# Altium footprint library LCD20x4.PcbLib: 1 footprints
Each footprint in its own frame and in the unit in brackets; x right, y up, seen from the top. Pads: shape width x height; smd on the part's side, far side on the other; paste and mask are expansions set on the pad; w line width, h text height; cw(c..) or ccw(c..) is an arc to the next point about the centre after c.
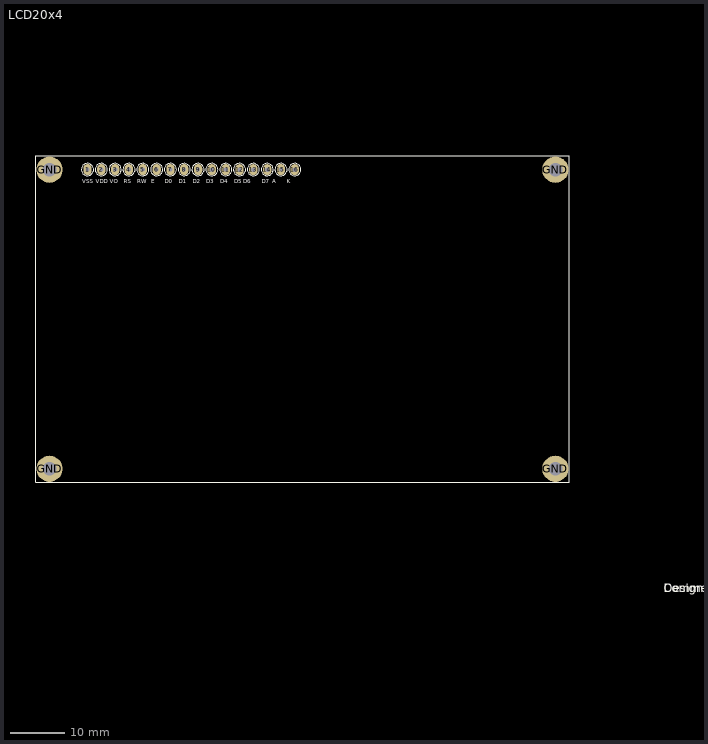
[diagram p0: the footprint, top view; thin cyan lines are the x and y axes]

## LCD20x4 [mil]
pads (20):
  oval 60x80 hole 30: 1(-12460,-1353) 2(-12360,-1353) 3(-12260,-1353) 4(-12161,-1353) 5(-12060,-1353) 6(-11960,-1353) 7(-11860,-1353) 8(-11761,-1353) 9(-11660,-1353) 10(-11561,-1354) 11(-11460,-1353) 12(-11360,-1354) 13(-11261,-1354) 14(-11160,-1354) 15(-11061,-1353) 16(-10961,-1354)
  round 190 hole 100: GND(-12735,-3518) GND(-12735,-1354) GND(-9075,-3518) GND(-9075,-1354)
Top Overlay:
  circle w0.5: c-12735.77,-1353.03 r59.06
  circle w0.5: c-9074.35,-1353.03 r59.06
  circle w0.5: c-12735.77,-3518.39 r59.19
  circle w0.5: c-9074.35,-3518.39 r59.06
  circle w0.5: c-12460.18,-1353.03 r44.15
  circle w0.5: c-12360.18,-1353.03 r44.15
  circle w0.5: c-12260.18,-1352.98 r44.2
  circle w0.5: c-12160.18,-1352.98 r44.2
  circle w0.5: c-12060.18,-1352.98 r44.2
  circle w0.5: c-11960.18,-1352.98 r44.2
  circle w0.5: c-11860.31,-1352.98 r44.2
  circle w0.5: c-11760.18,-1352.98 r44.2
  circle w0.5: c-11660.18,-1352.98 r44.2
  circle w0.5: c-11560.18,-1352.98 r44.2
  circle w0.5: c-11460.18,-1352.98 r44.2
  circle w0.5: c-11360.18,-1352.98 r44.2
  circle w0.5: c-11260.18,-1352.98 r44.2
  circle w0.5: c-11160.18,-1352.98 r44.2
  circle w0.5: c-11060.21,-1352.98 r44.2
  circle w0.5: c-10960.18,-1352.98 r44.2
  lines w0.5: -12834.19,-3616.81 -8975.93,-3616.81 -8975.93,-1254.61 -12834.19,-1254.61 -12834.19,-3616.81
  text "Comment" at -8290,-4410 h60
  text "Designator1" at -8290,-4410 h60
  text "VSS" at -12499.71,-1452.45 h28.7
  text "VDD" at -12399.71,-1452.45 h28.7
  text "VO" at -12299.71,-1452.45 h28.7
  text "RS" at -12199.71,-1452.45 h28.7
  text "RW" at -12099.71,-1452.45 h28.7
  text "E" at -11999.71,-1452.45 h28.7
  text "D0" at -11899.71,-1452.45 h28.7
  text "D1" at -11799.71,-1452.45 h28.7
  text "D2" at -11699.71,-1452.45 h28.7
  text "D3" at -11599.71,-1452.45 h28.7
  text "D4" at -11499.71,-1452.45 h28.7
  text "D5" at -11399.71,-1452.45 h28.7
  text "D6" at -11332,-1451 h28.7
  text "D7" at -11199.71,-1452.45 h28.7
  text "A" at -11125,-1452 h28.7
  text "K" at -11018,-1452 h28.7
3D body "LCD сборка.STEP": height 705.41, standoff -74.12, extent -12834,-3617.2 -8975.73,-1255